# Altium schematic symbol library CGA6P3X7R1E226M250AE.SchLib: 1 symbol
Pins are listed as number, name and electrical type; pins without a type are passive.

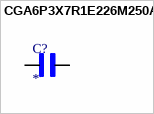
[diagram p0: symbol CGA6P3X7R1E226M250AE]

## CGA6P3X7R1E226M250AE
designator C?
MF: {'manufacturer': u'TDK Corporation'}; MP: CGA6P3X7R1E226M250AE; Price: None; Availability: Unavailable; Package: None; Value: *
footprint CAP_CGA6P3X7R1E226M250AE
pins: 1, 2